# Altium schematic symbol library gy-521.SCHLIB: 1 symbol
Pins are listed as number, name and electrical type; pins without a type are passive.

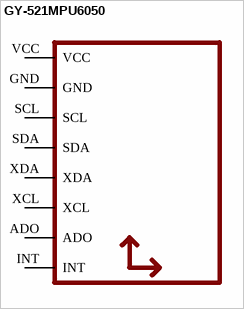
[diagram p0: symbol GY-521MPU6050]

## GY-521MPU6050
designator U?
GateName_1: G$1; SymbolName_1: MPU6050; DeviceSetName: GY-521; DeviceName: MPU6050; LibraryName: gy-521; Package: GY-521
footprint GY-521
pins: ADO, GND, INT, SCL, SDA, VCC, XCL, XDA